# Altium integrated library TI Data Converters Analog to Digital Converter.IntLib: 2197 symbols (part 70 of 168)
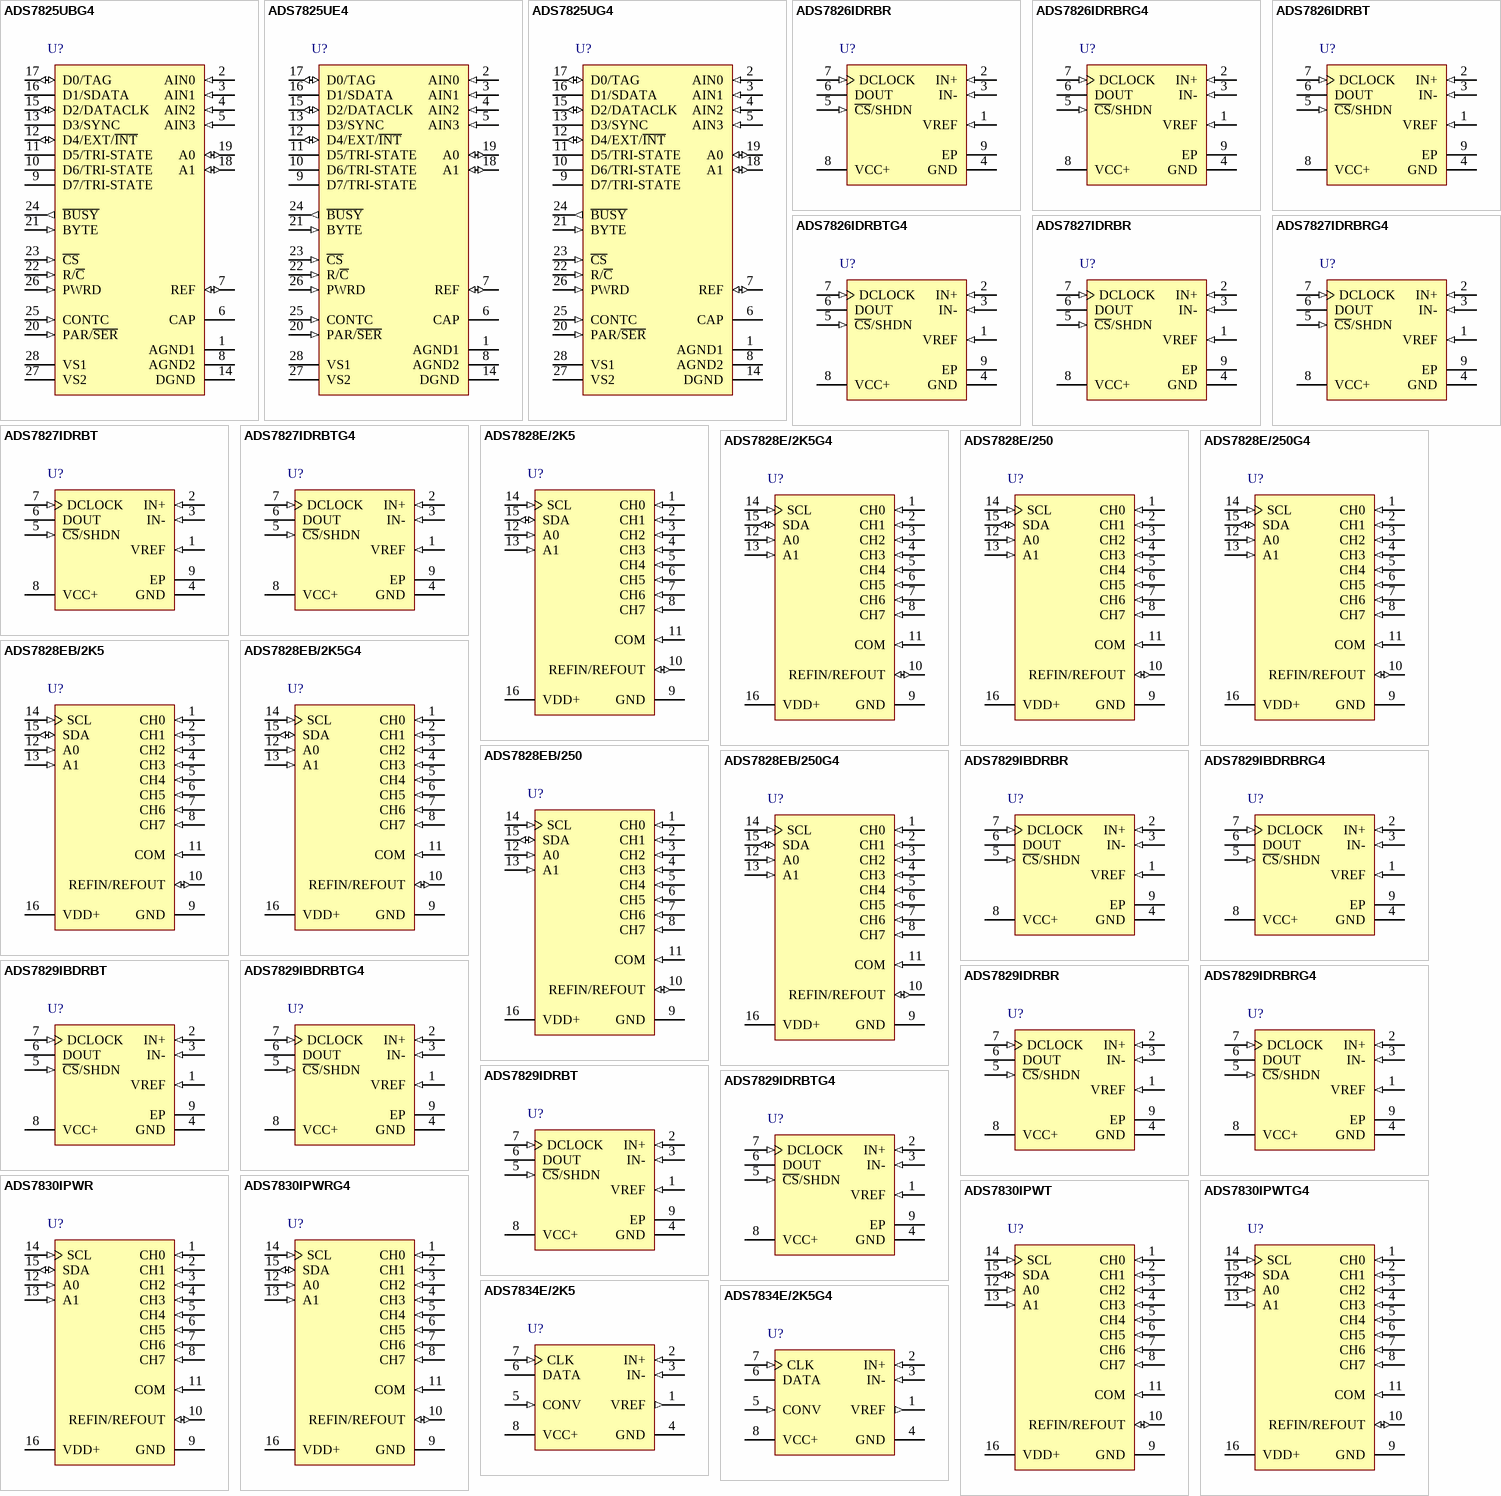
[diagram p195: symbols ADS7825UBG4 to ADS7834E/2K5G4]

## ADS7828E/2K5
designator U?
12-Bit 50 kSPS ADC I2C Low Power 8-Channel Multiplexer Internal 2.5 V Reference, -40 to 85 degC, 16-pin SOP (PW16), Green (RoHS & no Sb/Br); Manufacturer: Texas Instruments; PartNumber: ADS7828E/2K5; # Input Channels: 8; Analog Voltage AV/DD(Max)(V): 5.25; Analog Voltage AV/DD(Min)(V): 2.7; Architecture: SAR; INL(Max)(+/-LSB): 2; Interface: Serial I2C; Resolution(Bits): 12; Sample Rate (max)(SPS): 50k; SFDR(dB): 86; SINAD(dB): 71; SNR(dB): 72; SubFamily: Precision ADC (<=10MSPS); DatasheetVersion: SBAS181C; PackageVersion: 4040064-4/G, 02/2011; PackageReference: PW16; PackageDescription: 16-Pin Plastic Small Outline, Body 5 x 4.4 mm, Pitch 0.65 mm; Supplier 1: Digi-Key; Supplier Part Number 1: ADS8412IBPFBTG4-ND; Supplier 2: Mouser; Supplier Part Number 2: 595-ADS8412IBPFBTG4; Digital Supply(Max)(V): 5.25; Digital Supply(Min)(V): 2.7; Eco-Plan: Green (RoHS & no Sb/Br); Mounting Technology: Surface Mount; Code_JEDEC: MO-153; ComponentLink1Description: Manufacturer URL; ComponentLink1URL: http://www.ti.com/; ComponentLink2Description: Datasheet; ComponentLink2URL: http://www.ti.com/general/docs/lit/getliterature.tsp?genericPartNumber=ADS7828&fileType=pdf; ComponentLink3Description: Package Specification; ComponentLink3URL: http://www.ti.com/lit/ml/mpds361/mpds361.pdf
footprint TI-PW16_N (SOP, 16-Leads, Body 5x4.4mm, Pitch 0.65mm, IPC Medium Density)
footprint TI-PW16_L (SOP, 16-Leads, Body 5x4.4mm, Pitch 0.65mm, IPC High Density)
footprint TI-PW16_M (SOP, 16-Leads, Body 5x4.4mm, Pitch 0.65mm, IPC Low Density)
pins: 1 CH0 (in) "Analog Input Channel 0", 2 CH1 (in) "Analog Input Channel 1", 3 CH2 (in) "Analog Input Channel 2", 4 CH3 (in) "Analog Input Channel 3", 5 CH4 (in) "Analog Input Channel 4", 6 CH5 (in) "Analog Input Channel 5", 7 CH6 (in) "Analog Input Channel 6", 8 CH7 (in) "Analog Input Channel 7", 9 GND (power) "Analog Ground", 10 REFIN/REFOUT (io) "Internal +2.5V Reference, External Reference Input", 11 COM (in) "Common to Analog Input Channel", 12 A0 (in) "Slave Address Bit 0", 13 A1 (in) "Slave Address Bit 1", 14 SCL (in) "Serial Clock", 15 SDA (io) "Serial Data", 16 VDD+ (power) "Power Supply, 3.3V Nominal"

## ADS7828E/2K5G4
designator U?
12-Bit 50 kSPS ADC I2C Low Power 8-Channel Multiplexer Internal 2.5 V Reference, -40 to 85 degC, 16-pin SOP (PW16), Green (RoHS & no Sb/Br); Manufacturer: Texas Instruments; PartNumber: ADS7828E/2K5G4; # Input Channels: 8; Analog Voltage AV/DD(Max)(V): 5.25; Analog Voltage AV/DD(Min)(V): 2.7; Architecture: SAR; INL(Max)(+/-LSB): 2; Interface: Serial I2C; Resolution(Bits): 12; Sample Rate (max)(SPS): 50k; SFDR(dB): 86; SINAD(dB): 71; SNR(dB): 72; SubFamily: Precision ADC (<=10MSPS); DatasheetVersion: SBAS181C; PackageVersion: 4040064-4/G, 02/2011; PackageReference: PW16; PackageDescription: 16-Pin Plastic Small Outline, Body 5 x 4.4 mm, Pitch 0.65 mm; Supplier 1: Digi-Key; Supplier Part Number 1: 296-15255-2-ND; Supplier 2: Digi-Key; Supplier Part Number 2: 296-15255-1-ND; Supplier 3: Digi-Key; Supplier Part Number 3: 296-15255-6-ND; Supplier 4: Mouser; Supplier Part Number 4: 595-ADS8412IPFBT; Digital Supply(Max)(V): 5.25; Digital Supply(Min)(V): 2.7; Eco-Plan: Green (RoHS & no Sb/Br); Mounting Technology: Surface Mount; Code_JEDEC: MO-153; ComponentLink1Description: Manufacturer URL; ComponentLink1URL: http://www.ti.com/; ComponentLink2Description: Datasheet; ComponentLink2URL: http://www.ti.com/general/docs/lit/getliterature.tsp?genericPartNumber=ADS7828&fileType=pdf; ComponentLink3Description: Package Specification; ComponentLink3URL: http://www.ti.com/lit/ml/mpds361/mpds361.pdf
footprint TI-PW16_N (SOP, 16-Leads, Body 5x4.4mm, Pitch 0.65mm, IPC Medium Density)
footprint TI-PW16_L (SOP, 16-Leads, Body 5x4.4mm, Pitch 0.65mm, IPC High Density)
footprint TI-PW16_M (SOP, 16-Leads, Body 5x4.4mm, Pitch 0.65mm, IPC Low Density)
pins: 1 CH0 (in) "Analog Input Channel 0", 2 CH1 (in) "Analog Input Channel 1", 3 CH2 (in) "Analog Input Channel 2", 4 CH3 (in) "Analog Input Channel 3", 5 CH4 (in) "Analog Input Channel 4", 6 CH5 (in) "Analog Input Channel 5", 7 CH6 (in) "Analog Input Channel 6", 8 CH7 (in) "Analog Input Channel 7", 9 GND (power) "Analog Ground", 10 REFIN/REFOUT (io) "Internal +2.5V Reference, External Reference Input", 11 COM (in) "Common to Analog Input Channel", 12 A0 (in) "Slave Address Bit 0", 13 A1 (in) "Slave Address Bit 1", 14 SCL (in) "Serial Clock", 15 SDA (io) "Serial Data", 16 VDD+ (power) "Power Supply, 3.3V Nominal"

## ADS7828E/250
designator U?
12-Bit 50 kSPS ADC I2C Low Power 8-Channel Multiplexer Internal 2.5 V Reference, -40 to 85 degC, 16-pin SOP (PW16), Green (RoHS & no Sb/Br); Manufacturer: Texas Instruments; PartNumber: ADS7828E/250; # Input Channels: 8; Analog Voltage AV/DD(Max)(V): 5.25; Analog Voltage AV/DD(Min)(V): 2.7; Architecture: SAR; INL(Max)(+/-LSB): 2; Interface: Serial I2C; Resolution(Bits): 12; Sample Rate (max)(SPS): 50k; SFDR(dB): 86; SINAD(dB): 71; SNR(dB): 72; SubFamily: Precision ADC (<=10MSPS); DatasheetVersion: SBAS181C; PackageVersion: 4040064-4/G, 02/2011; PackageReference: PW16; PackageDescription: 16-Pin Plastic Small Outline, Body 5 x 4.4 mm, Pitch 0.65 mm; Supplier 1: Digi-Key; Supplier Part Number 1: ADS8412IPFBTG4-ND; Supplier 2: Mouser; Supplier Part Number 2: 595-ADS8412IPFBTG4; Digital Supply(Max)(V): 5.25; Digital Supply(Min)(V): 2.7; Eco-Plan: Green (RoHS & no Sb/Br); Mounting Technology: Surface Mount; Code_JEDEC: MO-153; ComponentLink1Description: Manufacturer URL; ComponentLink1URL: http://www.ti.com/; ComponentLink2Description: Datasheet; ComponentLink2URL: http://www.ti.com/general/docs/lit/getliterature.tsp?genericPartNumber=ADS7828&fileType=pdf; ComponentLink3Description: Package Specification; ComponentLink3URL: http://www.ti.com/lit/ml/mpds361/mpds361.pdf
footprint TI-PW16_N (SOP, 16-Leads, Body 5x4.4mm, Pitch 0.65mm, IPC Medium Density)
footprint TI-PW16_L (SOP, 16-Leads, Body 5x4.4mm, Pitch 0.65mm, IPC High Density)
footprint TI-PW16_M (SOP, 16-Leads, Body 5x4.4mm, Pitch 0.65mm, IPC Low Density)
pins: 1 CH0 (in) "Analog Input Channel 0", 2 CH1 (in) "Analog Input Channel 1", 3 CH2 (in) "Analog Input Channel 2", 4 CH3 (in) "Analog Input Channel 3", 5 CH4 (in) "Analog Input Channel 4", 6 CH5 (in) "Analog Input Channel 5", 7 CH6 (in) "Analog Input Channel 6", 8 CH7 (in) "Analog Input Channel 7", 9 GND (power) "Analog Ground", 10 REFIN/REFOUT (io) "Internal +2.5V Reference, External Reference Input", 11 COM (in) "Common to Analog Input Channel", 12 A0 (in) "Slave Address Bit 0", 13 A1 (in) "Slave Address Bit 1", 14 SCL (in) "Serial Clock", 15 SDA (io) "Serial Data", 16 VDD+ (power) "Power Supply, 3.3V Nominal"

## ADS7828E/250G4
designator U?
12-Bit 50 kSPS ADC I2C Low Power 8-Channel Multiplexer Internal 2.5 V Reference, -40 to 85 degC, 16-pin SOP (PW16), Green (RoHS & no Sb/Br); Manufacturer: Texas Instruments; PartNumber: ADS7828E/250G4; # Input Channels: 8; Analog Voltage AV/DD(Max)(V): 5.25; Analog Voltage AV/DD(Min)(V): 2.7; Architecture: SAR; INL(Max)(+/-LSB): 2; Interface: Serial I2C; Resolution(Bits): 12; Sample Rate (max)(SPS): 50k; SFDR(dB): 86; SINAD(dB): 71; SNR(dB): 72; SubFamily: Precision ADC (<=10MSPS); DatasheetVersion: SBAS181C; PackageVersion: 4040064-4/G, 02/2011; PackageReference: PW16; PackageDescription: 16-Pin Plastic Small Outline, Body 5 x 4.4 mm, Pitch 0.65 mm; Supplier 1: Digi-Key; Supplier Part Number 1: ADS8411IBPFBR-ND; Supplier 2: Mouser; Supplier Part Number 2: 595-ADS8411IBPFBR; Digital Supply(Max)(V): 5.25; Digital Supply(Min)(V): 2.7; Eco-Plan: Green (RoHS & no Sb/Br); Mounting Technology: Surface Mount; Code_JEDEC: MO-153; ComponentLink1Description: Manufacturer URL; ComponentLink1URL: http://www.ti.com/; ComponentLink2Description: Datasheet; ComponentLink2URL: http://www.ti.com/general/docs/lit/getliterature.tsp?genericPartNumber=ADS7828&fileType=pdf; ComponentLink3Description: Package Specification; ComponentLink3URL: http://www.ti.com/lit/ml/mpds361/mpds361.pdf
footprint TI-PW16_N (SOP, 16-Leads, Body 5x4.4mm, Pitch 0.65mm, IPC Medium Density)
footprint TI-PW16_L (SOP, 16-Leads, Body 5x4.4mm, Pitch 0.65mm, IPC High Density)
footprint TI-PW16_M (SOP, 16-Leads, Body 5x4.4mm, Pitch 0.65mm, IPC Low Density)
pins: 1 CH0 (in) "Analog Input Channel 0", 2 CH1 (in) "Analog Input Channel 1", 3 CH2 (in) "Analog Input Channel 2", 4 CH3 (in) "Analog Input Channel 3", 5 CH4 (in) "Analog Input Channel 4", 6 CH5 (in) "Analog Input Channel 5", 7 CH6 (in) "Analog Input Channel 6", 8 CH7 (in) "Analog Input Channel 7", 9 GND (power) "Analog Ground", 10 REFIN/REFOUT (io) "Internal +2.5V Reference, External Reference Input", 11 COM (in) "Common to Analog Input Channel", 12 A0 (in) "Slave Address Bit 0", 13 A1 (in) "Slave Address Bit 1", 14 SCL (in) "Serial Clock", 15 SDA (io) "Serial Data", 16 VDD+ (power) "Power Supply, 3.3V Nominal"

## ADS7828EB/2K5
designator U?
12-Bit 50 kSPS ADC I2C Low Power 8-Channel Multiplexer Internal 2.5 V Reference, -40 to 85 degC, 16-pin SOP (PW16), Green (RoHS & no Sb/Br); Manufacturer: Texas Instruments; PartNumber: ADS7828EB/2K5; # Input Channels: 8; Analog Voltage AV/DD(Max)(V): 5.25; Analog Voltage AV/DD(Min)(V): 2.7; Architecture: SAR; INL(Max)(+/-LSB): 1; Interface: Serial I2C; Resolution(Bits): 12; Sample Rate (max)(SPS): 50k; SFDR(dB): 86; SINAD(dB): 71; SNR(dB): 72; SubFamily: Precision ADC (<=10MSPS); DatasheetVersion: SBAS181C; PackageVersion: 4040064-4/G, 02/2011; PackageReference: PW16; PackageDescription: 16-Pin Plastic Small Outline, Body 5 x 4.4 mm, Pitch 0.65 mm; Supplier 1: Digi-Key; Supplier Part Number 1: ADS8411IBPFBRG4-ND; Supplier 2: Mouser; Supplier Part Number 2: 595-ADS8411IBPFBRG4; Digital Supply(Max)(V): 5.25; Digital Supply(Min)(V): 2.7; Eco-Plan: Green (RoHS & no Sb/Br); Mounting Technology: Surface Mount; Code_JEDEC: MO-153; ComponentLink1Description: Manufacturer URL; ComponentLink1URL: http://www.ti.com/; ComponentLink2Description: Datasheet; ComponentLink2URL: http://www.ti.com/general/docs/lit/getliterature.tsp?genericPartNumber=ADS7828&fileType=pdf; ComponentLink3Description: Package Specification; ComponentLink3URL: http://www.ti.com/lit/ml/mpds361/mpds361.pdf
footprint TI-PW16_N (SOP, 16-Leads, Body 5x4.4mm, Pitch 0.65mm, IPC Medium Density)
footprint TI-PW16_L (SOP, 16-Leads, Body 5x4.4mm, Pitch 0.65mm, IPC High Density)
footprint TI-PW16_M (SOP, 16-Leads, Body 5x4.4mm, Pitch 0.65mm, IPC Low Density)
pins: 1 CH0 (in) "Analog Input Channel 0", 2 CH1 (in) "Analog Input Channel 1", 3 CH2 (in) "Analog Input Channel 2", 4 CH3 (in) "Analog Input Channel 3", 5 CH4 (in) "Analog Input Channel 4", 6 CH5 (in) "Analog Input Channel 5", 7 CH6 (in) "Analog Input Channel 6", 8 CH7 (in) "Analog Input Channel 7", 9 GND (power) "Analog Ground", 10 REFIN/REFOUT (io) "Internal +2.5V Reference, External Reference Input", 11 COM (in) "Common to Analog Input Channel", 12 A0 (in) "Slave Address Bit 0", 13 A1 (in) "Slave Address Bit 1", 14 SCL (in) "Serial Clock", 15 SDA (io) "Serial Data", 16 VDD+ (power) "Power Supply, 3.3V Nominal"

## ADS7828EB/2K5G4
designator U?
12-Bit 50 kSPS ADC I2C Low Power 8-Channel Multiplexer Internal 2.5 V Reference, -40 to 85 degC, 16-pin SOP (PW16), Green (RoHS & no Sb/Br); Manufacturer: Texas Instruments; PartNumber: ADS7828EB/2K5G4; # Input Channels: 8; Analog Voltage AV/DD(Max)(V): 5.25; Analog Voltage AV/DD(Min)(V): 2.7; Architecture: SAR; INL(Max)(+/-LSB): 1; Interface: Serial I2C; Resolution(Bits): 12; Sample Rate (max)(SPS): 50k; SFDR(dB): 86; SINAD(dB): 71; SNR(dB): 72; SubFamily: Precision ADC (<=10MSPS); DatasheetVersion: SBAS181C; PackageVersion: 4040064-4/G, 02/2011; PackageReference: PW16; PackageDescription: 16-Pin Plastic Small Outline, Body 5 x 4.4 mm, Pitch 0.65 mm; Supplier 1: Digi-Key; Supplier Part Number 1: 296-15252-2-ND; Supplier 2: Digi-Key; Supplier Part Number 2: 296-15252-1-ND; Supplier 3: Digi-Key; Supplier Part Number 3: 296-15252-6-ND; Supplier 4: Newark; Supplier Part Number 4: 73H4135; Supplier 5: Mouser; Supplier Part Number 5: 595-ADS8411IBPFBT; Digital Supply(Max)(V): 5.25; Digital Supply(Min)(V): 2.7; Eco-Plan: Green (RoHS & no Sb/Br); Mounting Technology: Surface Mount; Code_JEDEC: MO-153; ComponentLink1Description: Manufacturer URL; ComponentLink1URL: http://www.ti.com/; ComponentLink2Description: Datasheet; ComponentLink2URL: http://www.ti.com/general/docs/lit/getliterature.tsp?genericPartNumber=ADS7828&fileType=pdf; ComponentLink3Description: Package Specification; ComponentLink3URL: http://www.ti.com/lit/ml/mpds361/mpds361.pdf
footprint TI-PW16_N (SOP, 16-Leads, Body 5x4.4mm, Pitch 0.65mm, IPC Medium Density)
footprint TI-PW16_L (SOP, 16-Leads, Body 5x4.4mm, Pitch 0.65mm, IPC High Density)
footprint TI-PW16_M (SOP, 16-Leads, Body 5x4.4mm, Pitch 0.65mm, IPC Low Density)
pins: 1 CH0 (in) "Analog Input Channel 0", 2 CH1 (in) "Analog Input Channel 1", 3 CH2 (in) "Analog Input Channel 2", 4 CH3 (in) "Analog Input Channel 3", 5 CH4 (in) "Analog Input Channel 4", 6 CH5 (in) "Analog Input Channel 5", 7 CH6 (in) "Analog Input Channel 6", 8 CH7 (in) "Analog Input Channel 7", 9 GND (power) "Analog Ground", 10 REFIN/REFOUT (io) "Internal +2.5V Reference, External Reference Input", 11 COM (in) "Common to Analog Input Channel", 12 A0 (in) "Slave Address Bit 0", 13 A1 (in) "Slave Address Bit 1", 14 SCL (in) "Serial Clock", 15 SDA (io) "Serial Data", 16 VDD+ (power) "Power Supply, 3.3V Nominal"

## ADS7828EB/250
designator U?
12-Bit 50 kSPS ADC I2C Low Power 8-Channel Multiplexer Internal 2.5 V Reference, -40 to 85 degC, 16-pin SOP (PW16), Green (RoHS & no Sb/Br); Manufacturer: Texas Instruments; PartNumber: ADS7828EB/250; # Input Channels: 8; Analog Voltage AV/DD(Max)(V): 5.25; Analog Voltage AV/DD(Min)(V): 2.7; Architecture: SAR; INL(Max)(+/-LSB): 1; Interface: Serial I2C; Resolution(Bits): 12; Sample Rate (max)(SPS): 50k; SFDR(dB): 86; SINAD(dB): 71; SNR(dB): 72; SubFamily: Precision ADC (<=10MSPS); DatasheetVersion: SBAS181C; PackageVersion: 4040064-4/G, 02/2011; PackageReference: PW16; PackageDescription: 16-Pin Plastic Small Outline, Body 5 x 4.4 mm, Pitch 0.65 mm; Supplier 1: Digi-Key; Supplier Part Number 1: ADS8411IBPFBTG4-ND; Supplier 2: Mouser; Supplier Part Number 2: 595-ADS8411IBPFBTG4; Digital Supply(Max)(V): 5.25; Digital Supply(Min)(V): 2.7; Eco-Plan: Green (RoHS & no Sb/Br); Mounting Technology: Surface Mount; Code_JEDEC: MO-153; ComponentLink1Description: Manufacturer URL; ComponentLink1URL: http://www.ti.com/; ComponentLink2Description: Datasheet; ComponentLink2URL: http://www.ti.com/general/docs/lit/getliterature.tsp?genericPartNumber=ADS7828&fileType=pdf; ComponentLink3Description: Package Specification; ComponentLink3URL: http://www.ti.com/lit/ml/mpds361/mpds361.pdf
footprint TI-PW16_N (SOP, 16-Leads, Body 5x4.4mm, Pitch 0.65mm, IPC Medium Density)
footprint TI-PW16_L (SOP, 16-Leads, Body 5x4.4mm, Pitch 0.65mm, IPC High Density)
footprint TI-PW16_M (SOP, 16-Leads, Body 5x4.4mm, Pitch 0.65mm, IPC Low Density)
pins: 1 CH0 (in) "Analog Input Channel 0", 2 CH1 (in) "Analog Input Channel 1", 3 CH2 (in) "Analog Input Channel 2", 4 CH3 (in) "Analog Input Channel 3", 5 CH4 (in) "Analog Input Channel 4", 6 CH5 (in) "Analog Input Channel 5", 7 CH6 (in) "Analog Input Channel 6", 8 CH7 (in) "Analog Input Channel 7", 9 GND (power) "Analog Ground", 10 REFIN/REFOUT (io) "Internal +2.5V Reference, External Reference Input", 11 COM (in) "Common to Analog Input Channel", 12 A0 (in) "Slave Address Bit 0", 13 A1 (in) "Slave Address Bit 1", 14 SCL (in) "Serial Clock", 15 SDA (io) "Serial Data", 16 VDD+ (power) "Power Supply, 3.3V Nominal"

## ADS7828EB/250G4
designator U?
12-Bit 50 kSPS ADC I2C Low Power 8-Channel Multiplexer Internal 2.5 V Reference, -40 to 85 degC, 16-pin SOP (PW16), Green (RoHS & no Sb/Br); Manufacturer: Texas Instruments; PartNumber: ADS7828EB/250G4; # Input Channels: 8; Analog Voltage AV/DD(Max)(V): 5.25; Analog Voltage AV/DD(Min)(V): 2.7; Architecture: SAR; INL(Max)(+/-LSB): 1; Interface: Serial I2C; Resolution(Bits): 12; Sample Rate (max)(SPS): 50k; SFDR(dB): 86; SINAD(dB): 71; SNR(dB): 72; SubFamily: Precision ADC (<=10MSPS); DatasheetVersion: SBAS181C; PackageVersion: 4040064-4/G, 02/2011; PackageReference: PW16; PackageDescription: 16-Pin Plastic Small Outline, Body 5 x 4.4 mm, Pitch 0.65 mm; Supplier 1: Digi-Key; Supplier Part Number 1: 296-15253-2-ND; Supplier 2: Digi-Key; Supplier Part Number 2: 296-15253-1-ND; Supplier 3: Digi-Key; Supplier Part Number 3: 296-15253-6-ND; Supplier 4: Mouser; Supplier Part Number 4: 595-ADS8411IPFBT; Digital Supply(Max)(V): 5.25; Digital Supply(Min)(V): 2.7; Eco-Plan: Green (RoHS & no Sb/Br); Mounting Technology: Surface Mount; Code_JEDEC: MO-153; ComponentLink1Description: Manufacturer URL; ComponentLink1URL: http://www.ti.com/; ComponentLink2Description: Datasheet; ComponentLink2URL: http://www.ti.com/general/docs/lit/getliterature.tsp?genericPartNumber=ADS7828&fileType=pdf; ComponentLink3Description: Package Specification; ComponentLink3URL: http://www.ti.com/lit/ml/mpds361/mpds361.pdf
footprint TI-PW16_N (SOP, 16-Leads, Body 5x4.4mm, Pitch 0.65mm, IPC Medium Density)
footprint TI-PW16_L (SOP, 16-Leads, Body 5x4.4mm, Pitch 0.65mm, IPC High Density)
footprint TI-PW16_M (SOP, 16-Leads, Body 5x4.4mm, Pitch 0.65mm, IPC Low Density)
pins: 1 CH0 (in) "Analog Input Channel 0", 2 CH1 (in) "Analog Input Channel 1", 3 CH2 (in) "Analog Input Channel 2", 4 CH3 (in) "Analog Input Channel 3", 5 CH4 (in) "Analog Input Channel 4", 6 CH5 (in) "Analog Input Channel 5", 7 CH6 (in) "Analog Input Channel 6", 8 CH7 (in) "Analog Input Channel 7", 9 GND (power) "Analog Ground", 10 REFIN/REFOUT (io) "Internal +2.5V Reference, External Reference Input", 11 COM (in) "Common to Analog Input Channel", 12 A0 (in) "Slave Address Bit 0", 13 A1 (in) "Slave Address Bit 1", 14 SCL (in) "Serial Clock", 15 SDA (io) "Serial Data", 16 VDD+ (power) "Power Supply, 3.3V Nominal"

## ADS7829IBDRBR
designator U?
12-Bit High Speed 2.7 V microPower Sampling ADC, -40 to 85 degC, 8-pin SON (DRB8), Green (RoHS & no Sb/Br); Manufacturer: Texas Instruments; PartNumber: ADS7829IBDRBR; # Input Channels: 1; Analog Voltage AV/DD(Max)(V): 5.25; Analog Voltage AV/DD(Min)(V): 2; Architecture: SAR; Digital Supply(Min)(V): 2.7; INL(Max)(+/-LSB): 1.25; Interface: Serial SPI; Resolution(Bits): 12; Sample Rate (max)(SPS): 125k; SFDR(dB): 85; SINAD(dB): 72; SubFamily: Precision ADC (<=10MSPS); DatasheetVersion: SLAS388; PackageVersion: 4203482-2/K, 06/2012; PackageReference: DRB8-1750X1500TP; PackageDescription: 8-Pin Plastic Small Outline, Body 3 x 3 mm, Pitch 0.65 mm; Supplier 1: Digi-Key; Supplier Part Number 1: ADS8411IPFBTG4-ND; Supplier 2: Mouser; Supplier Part Number 2: 595-ADS8411IPFBTG4; Digital Supply(Max)(V): 5.25; Eco-Plan: Green (RoHS & no Sb/Br); Mounting Technology: Surface Mount; ComponentLink1Description: Manufacturer URL; ComponentLink1URL: http://www.ti.com/; ComponentLink2Description: Datasheet; ComponentLink2URL: http://www.ti.com/general/docs/lit/getliterature.tsp?genericPartNumber=ADS7829&fileType=pdf; ComponentLink3Description: Package Specification; ComponentLink3URL: http://www.ti.com/litv/pdf/mpds118h
footprint TI-DRB8-1750X1500TP_V (SON, 8-Leads, Body 3x3mm, Pitch 0.65mm, Thermal Pad 1.50 x 3.8mm)
pins: 1 VREF (in) "Reference input", 2 IN+ (in) "Noninverting input", 3 IN- (in) "Inverting input. Connect to ground or to remote ground sense point.", 4 GND (power) "Ground", 5 ~{CS}/SHDN (in) "Chip select when LOW, shutdown mode when HIGH", 6 DOUT (hiz) "The serial output data word is comprised of 12 bits of data. In operation the data is valid on the falling edge of DCLOCK. The second clock pulse after the falling edge of C\S\ enables the serial output. After one null bit, (See Datasheet)", 7 DCLOCK (in) "Data Clock synchronizes the serial data transfer and determines conversion speed.", 8 VCC+ (power) "Power supply", 9 EP

## ADS7829IBDRBRG4
designator U?
12-Bit High Speed 2.7 V microPower Sampling ADC, -40 to 85 degC, 8-pin SON (DRB8), Green (RoHS & no Sb/Br); Manufacturer: Texas Instruments; PartNumber: ADS7829IBDRBRG4; # Input Channels: 1; Analog Voltage AV/DD(Max)(V): 5.25; Analog Voltage AV/DD(Min)(V): 2; Architecture: SAR; Digital Supply(Min)(V): 2.7; INL(Max)(+/-LSB): 1.25; Interface: Serial SPI; Resolution(Bits): 12; Sample Rate (max)(SPS): 125k; SFDR(dB): 85; SINAD(dB): 72; SubFamily: Precision ADC (<=10MSPS); DatasheetVersion: SLAS388; PackageVersion: 4203482-2/K, 06/2012; PackageReference: DRB8-1750X1500TP; PackageDescription: 8-Pin Plastic Small Outline, Body 3 x 3 mm, Pitch 0.65 mm; Supplier 1: Digi-Key; Supplier Part Number 1: 296-15077-2-ND; Supplier 2: Digi-Key; Supplier Part Number 2: 296-15077-1-ND; Supplier 3: Digi-Key; Supplier Part Number 3: 296-15077-6-ND; Supplier 4: Newark; Supplier Part Number 4: 66H9257; Supplier 5: Mouser; Supplier Part Number 5: 595-ADS8342IBPFBT; Digital Supply(Max)(V): 5.25; Eco-Plan: Green (RoHS & no Sb/Br); Mounting Technology: Surface Mount; ComponentLink1Description: Manufacturer URL; ComponentLink1URL: http://www.ti.com/; ComponentLink2Description: Datasheet; ComponentLink2URL: http://www.ti.com/general/docs/lit/getliterature.tsp?genericPartNumber=ADS7829&fileType=pdf; ComponentLink3Description: Package Specification; ComponentLink3URL: http://www.ti.com/litv/pdf/mpds118h
footprint TI-DRB8-1750X1500TP_V (SON, 8-Leads, Body 3x3mm, Pitch 0.65mm, Thermal Pad 1.50 x 3.8mm)
pins: 1 VREF (in) "Reference input", 2 IN+ (in) "Noninverting input", 3 IN- (in) "Inverting input. Connect to ground or to remote ground sense point.", 4 GND (power) "Ground", 5 ~{CS}/SHDN (in) "Chip select when LOW, shutdown mode when HIGH", 6 DOUT (hiz) "The serial output data word is comprised of 12 bits of data. In operation the data is valid on the falling edge of DCLOCK. The second clock pulse after the falling edge of C\S\ enables the serial output. After one null bit, (See Datasheet)", 7 DCLOCK (in) "Data Clock synchronizes the serial data transfer and determines conversion speed.", 8 VCC+ (power) "Power supply", 9 EP

## ADS7829IBDRBT
designator U?
12-Bit High Speed 2.7 V microPower Sampling ADC, -40 to 85 degC, 8-pin SON (DRB8), Green (RoHS & no Sb/Br); Manufacturer: Texas Instruments; PartNumber: ADS7829IBDRBT; # Input Channels: 1; Analog Voltage AV/DD(Max)(V): 5.25; Analog Voltage AV/DD(Min)(V): 2; Architecture: SAR; Digital Supply(Min)(V): 2.7; INL(Max)(+/-LSB): 1.25; Interface: Serial SPI; Resolution(Bits): 12; Sample Rate (max)(SPS): 125k; SFDR(dB): 85; SINAD(dB): 72; SubFamily: Precision ADC (<=10MSPS); DatasheetVersion: SLAS388; PackageVersion: 4203482-2/K, 06/2012; PackageReference: DRB8-1750X1500TP; PackageDescription: 8-Pin Plastic Small Outline, Body 3 x 3 mm, Pitch 0.65 mm; Supplier 1: Digi-Key; Supplier Part Number 1: ADS8342IBPFBTG4-ND; Supplier 2: Mouser; Supplier Part Number 2: 595-ADS8342IBPFBTG4; Digital Supply(Max)(V): 5.25; Eco-Plan: Green (RoHS & no Sb/Br); Mounting Technology: Surface Mount; ComponentLink1Description: Manufacturer URL; ComponentLink1URL: http://www.ti.com/; ComponentLink2Description: Datasheet; ComponentLink2URL: http://www.ti.com/general/docs/lit/getliterature.tsp?genericPartNumber=ADS7829&fileType=pdf; ComponentLink3Description: Package Specification; ComponentLink3URL: http://www.ti.com/litv/pdf/mpds118h
footprint TI-DRB8-1750X1500TP_V (SON, 8-Leads, Body 3x3mm, Pitch 0.65mm, Thermal Pad 1.50 x 3.8mm)
pins: 1 VREF (in) "Reference input", 2 IN+ (in) "Noninverting input", 3 IN- (in) "Inverting input. Connect to ground or to remote ground sense point.", 4 GND (power) "Ground", 5 ~{CS}/SHDN (in) "Chip select when LOW, shutdown mode when HIGH", 6 DOUT (hiz) "The serial output data word is comprised of 12 bits of data. In operation the data is valid on the falling edge of DCLOCK. The second clock pulse after the falling edge of C\S\ enables the serial output. After one null bit, (See Datasheet)", 7 DCLOCK (in) "Data Clock synchronizes the serial data transfer and determines conversion speed.", 8 VCC+ (power) "Power supply", 9 EP

## ADS7829IBDRBTG4
designator U?
12-Bit High Speed 2.7 V microPower Sampling ADC, -40 to 85 degC, 8-pin SON (DRB8), Green (RoHS & no Sb/Br); Manufacturer: Texas Instruments; PartNumber: ADS7829IBDRBTG4; # Input Channels: 1; Analog Voltage AV/DD(Max)(V): 5.25; Analog Voltage AV/DD(Min)(V): 2; Architecture: SAR; Digital Supply(Min)(V): 2.7; INL(Max)(+/-LSB): 1.25; Interface: Serial SPI; Resolution(Bits): 12; Sample Rate (max)(SPS): 125k; SFDR(dB): 85; SINAD(dB): 72; SubFamily: Precision ADC (<=10MSPS); DatasheetVersion: SLAS388; PackageVersion: 4203482-2/K, 06/2012; PackageReference: DRB8-1750X1500TP; PackageDescription: 8-Pin Plastic Small Outline, Body 3 x 3 mm, Pitch 0.65 mm; Supplier 1: Digi-Key; Supplier Part Number 1: 296-15078-2-ND; Supplier 2: Digi-Key; Supplier Part Number 2: 296-15078-1-ND; Supplier 3: Digi-Key; Supplier Part Number 3: 296-15078-6-ND; Supplier 4: Farnell; Supplier Part Number 4: 1459292; Supplier 5: Newark; Supplier Part Number 5: 66H9259; Supplier 6: Mouser; Supplier Part Number 6: 595-ADS8342IPFBT; Digital Supply(Max)(V): 5.25; Eco-Plan: Green (RoHS & no Sb/Br); Mounting Technology: Surface Mount; ComponentLink1Description: Manufacturer URL; ComponentLink1URL: http://www.ti.com/; ComponentLink2Description: Datasheet; ComponentLink2URL: http://www.ti.com/general/docs/lit/getliterature.tsp?genericPartNumber=ADS7829&fileType=pdf; ComponentLink3Description: Package Specification; ComponentLink3URL: http://www.ti.com/litv/pdf/mpds118h
footprint TI-DRB8-1750X1500TP_V (SON, 8-Leads, Body 3x3mm, Pitch 0.65mm, Thermal Pad 1.50 x 3.8mm)
pins: 1 VREF (in) "Reference input", 2 IN+ (in) "Noninverting input", 3 IN- (in) "Inverting input. Connect to ground or to remote ground sense point.", 4 GND (power) "Ground", 5 ~{CS}/SHDN (in) "Chip select when LOW, shutdown mode when HIGH", 6 DOUT (hiz) "The serial output data word is comprised of 12 bits of data. In operation the data is valid on the falling edge of DCLOCK. The second clock pulse after the falling edge of C\S\ enables the serial output. After one null bit, (See Datasheet)", 7 DCLOCK (in) "Data Clock synchronizes the serial data transfer and determines conversion speed.", 8 VCC+ (power) "Power supply", 9 EP

## ADS7829IDRBR
designator U?
12-Bit High Speed 2.7 V microPower Sampling ADC, -40 to 85 degC, 8-pin SON (DRB8), Green (RoHS & no Sb/Br); Manufacturer: Texas Instruments; PartNumber: ADS7829IDRBR; # Input Channels: 1; Analog Voltage AV/DD(Max)(V): 5.25; Analog Voltage AV/DD(Min)(V): 2; Architecture: SAR; Digital Supply(Min)(V): 2.7; Interface: Serial SPI; Resolution(Bits): 12; Sample Rate (max)(SPS): 125k; SFDR(dB): 82; SINAD(dB): 70; SubFamily: Precision ADC (<=10MSPS); DatasheetVersion: SLAS388; PackageVersion: 4203482-2/K, 06/2012; PackageReference: DRB8-1750X1500TP; PackageDescription: 8-Pin Plastic Small Outline, Body 3 x 3 mm, Pitch 0.65 mm; Supplier 1: Digi-Key; Supplier Part Number 1: ADS8342IPFBTG4-ND; Supplier 2: Mouser; Supplier Part Number 2: 595-ADS8342IPFBTG4; Digital Supply(Max)(V): 5.25; Eco-Plan: Green (RoHS & no Sb/Br); INL(Max)(+/-LSB): 2; Mounting Technology: Surface Mount; ComponentLink1Description: Manufacturer URL; ComponentLink1URL: http://www.ti.com/; ComponentLink2Description: Datasheet; ComponentLink2URL: http://www.ti.com/general/docs/lit/getliterature.tsp?genericPartNumber=ADS7829&fileType=pdf; ComponentLink3Description: Package Specification; ComponentLink3URL: http://www.ti.com/litv/pdf/mpds118h
footprint TI-DRB8-1750X1500TP_V (SON, 8-Leads, Body 3x3mm, Pitch 0.65mm, Thermal Pad 1.50 x 3.8mm)
pins: 1 VREF (in) "Reference input", 2 IN+ (in) "Noninverting input", 3 IN- (in) "Inverting input. Connect to ground or to remote ground sense point.", 4 GND (power) "Ground", 5 ~{CS}/SHDN (in) "Chip select when LOW, shutdown mode when HIGH", 6 DOUT (hiz) "The serial output data word is comprised of 12 bits of data. In operation the data is valid on the falling edge of DCLOCK. The second clock pulse after the falling edge of C\S\ enables the serial output. After one null bit, (See Datasheet)", 7 DCLOCK (in) "Data Clock synchronizes the serial data transfer and determines conversion speed.", 8 VCC+ (power) "Power supply", 9 EP

## ADS7829IDRBRG4
designator U?
12-Bit High Speed 2.7 V microPower Sampling ADC, -40 to 85 degC, 8-pin SON (DRB8), Green (RoHS & no Sb/Br); Manufacturer: Texas Instruments; PartNumber: ADS7829IDRBRG4; # Input Channels: 1; Analog Voltage AV/DD(Max)(V): 5.25; Analog Voltage AV/DD(Min)(V): 2; Architecture: SAR; Digital Supply(Min)(V): 2.7; Interface: Serial SPI; Resolution(Bits): 12; Sample Rate (max)(SPS): 125k; SFDR(dB): 82; SINAD(dB): 70; SubFamily: Precision ADC (<=10MSPS); DatasheetVersion: SLAS388; PackageVersion: 4203482-2/K, 06/2012; PackageReference: DRB8-1750X1500TP; PackageDescription: 8-Pin Plastic Small Outline, Body 3 x 3 mm, Pitch 0.65 mm; Supplier 1: Digi-Key; Supplier Part Number 1: ADS7881IRGZR-ND; Supplier 2: Mouser; Supplier Part Number 2: 595-ADS7881IRGZR; Digital Supply(Max)(V): 5.25; Eco-Plan: Green (RoHS & no Sb/Br); INL(Max)(+/-LSB): 2; Mounting Technology: Surface Mount; ComponentLink1Description: Manufacturer URL; ComponentLink1URL: http://www.ti.com/; ComponentLink2Description: Datasheet; ComponentLink2URL: http://www.ti.com/general/docs/lit/getliterature.tsp?genericPartNumber=ADS7829&fileType=pdf; ComponentLink3Description: Package Specification; ComponentLink3URL: http://www.ti.com/litv/pdf/mpds118h
footprint TI-DRB8-1750X1500TP_V (SON, 8-Leads, Body 3x3mm, Pitch 0.65mm, Thermal Pad 1.50 x 3.8mm)
pins: 1 VREF (in) "Reference input", 2 IN+ (in) "Noninverting input", 3 IN- (in) "Inverting input. Connect to ground or to remote ground sense point.", 4 GND (power) "Ground", 5 ~{CS}/SHDN (in) "Chip select when LOW, shutdown mode when HIGH", 6 DOUT (hiz) "The serial output data word is comprised of 12 bits of data. In operation the data is valid on the falling edge of DCLOCK. The second clock pulse after the falling edge of C\S\ enables the serial output. After one null bit, (See Datasheet)", 7 DCLOCK (in) "Data Clock synchronizes the serial data transfer and determines conversion speed.", 8 VCC+ (power) "Power supply", 9 EP

## ADS7829IDRBT
designator U?
12-Bit High Speed 2.7 V microPower Sampling ADC, -40 to 85 degC, 8-pin SON (DRB8), Green (RoHS & no Sb/Br); Manufacturer: Texas Instruments; PartNumber: ADS7829IDRBT; # Input Channels: 1; Analog Voltage AV/DD(Max)(V): 5.25; Analog Voltage AV/DD(Min)(V): 2; Architecture: SAR; Digital Supply(Min)(V): 2.7; Interface: Serial SPI; Resolution(Bits): 12; Sample Rate (max)(SPS): 125k; SFDR(dB): 82; SINAD(dB): 70; SubFamily: Precision ADC (<=10MSPS); DatasheetVersion: SLAS388; PackageVersion: 4203482-2/K, 06/2012; PackageReference: DRB8-1750X1500TP; PackageDescription: 8-Pin Plastic Small Outline, Body 3 x 3 mm, Pitch 0.65 mm; Supplier 1: Digi-Key; Supplier Part Number 1: ADS7881IRGZRG4-ND; Supplier 2: Mouser; Supplier Part Number 2: 595-ADS7881IRGZRG4; Digital Supply(Max)(V): 5.25; Eco-Plan: Green (RoHS & no Sb/Br); INL(Max)(+/-LSB): 2; Mounting Technology: Surface Mount; ComponentLink1Description: Manufacturer URL; ComponentLink1URL: http://www.ti.com/; ComponentLink2Description: Datasheet; ComponentLink2URL: http://www.ti.com/general/docs/lit/getliterature.tsp?genericPartNumber=ADS7829&fileType=pdf; ComponentLink3Description: Package Specification; ComponentLink3URL: http://www.ti.com/litv/pdf/mpds118h
footprint TI-DRB8-1750X1500TP_V (SON, 8-Leads, Body 3x3mm, Pitch 0.65mm, Thermal Pad 1.50 x 3.8mm)
pins: 1 VREF (in) "Reference input", 2 IN+ (in) "Noninverting input", 3 IN- (in) "Inverting input. Connect to ground or to remote ground sense point.", 4 GND (power) "Ground", 5 ~{CS}/SHDN (in) "Chip select when LOW, shutdown mode when HIGH", 6 DOUT (hiz) "The serial output data word is comprised of 12 bits of data. In operation the data is valid on the falling edge of DCLOCK. The second clock pulse after the falling edge of C\S\ enables the serial output. After one null bit, (See Datasheet)", 7 DCLOCK (in) "Data Clock synchronizes the serial data transfer and determines conversion speed.", 8 VCC+ (power) "Power supply", 9 EP

## ADS7829IDRBTG4
designator U?
12-Bit High Speed 2.7 V microPower Sampling ADC, -40 to 85 degC, 8-pin SON (DRB8), Green (RoHS & no Sb/Br); Manufacturer: Texas Instruments; PartNumber: ADS7829IDRBTG4; # Input Channels: 1; Analog Voltage AV/DD(Max)(V): 5.25; Analog Voltage AV/DD(Min)(V): 2; Architecture: SAR; Digital Supply(Min)(V): 2.7; Interface: Serial SPI; Resolution(Bits): 12; Sample Rate (max)(SPS): 125k; SFDR(dB): 82; SINAD(dB): 70; SubFamily: Precision ADC (<=10MSPS); DatasheetVersion: SLAS388; PackageVersion: 4203482-2/K, 06/2012; PackageReference: DRB8-1750X1500TP; PackageDescription: 8-Pin Plastic Small Outline, Body 3 x 3 mm, Pitch 0.65 mm; Supplier 1: Digi-Key; Supplier Part Number 1: 296-19489-2-ND; Supplier 2: Digi-Key; Supplier Part Number 2: 296-19489-1-ND; Supplier 3: Digi-Key; Supplier Part Number 3: 296-19489-6-ND; Supplier 4: Mouser; Supplier Part Number 4: 595-ADS7881IRGZT; Digital Supply(Max)(V): 5.25; Eco-Plan: Green (RoHS & no Sb/Br); INL(Max)(+/-LSB): 2; Mounting Technology: Surface Mount; ComponentLink1Description: Manufacturer URL; ComponentLink1URL: http://www.ti.com/; ComponentLink2Description: Datasheet; ComponentLink2URL: http://www.ti.com/general/docs/lit/getliterature.tsp?genericPartNumber=ADS7829&fileType=pdf; ComponentLink3Description: Package Specification; ComponentLink3URL: http://www.ti.com/litv/pdf/mpds118h
footprint TI-DRB8-1750X1500TP_V (SON, 8-Leads, Body 3x3mm, Pitch 0.65mm, Thermal Pad 1.50 x 3.8mm)
pins: 1 VREF (in) "Reference input", 2 IN+ (in) "Noninverting input", 3 IN- (in) "Inverting input. Connect to ground or to remote ground sense point.", 4 GND (power) "Ground", 5 ~{CS}/SHDN (in) "Chip select when LOW, shutdown mode when HIGH", 6 DOUT (hiz) "The serial output data word is comprised of 12 bits of data. In operation the data is valid on the falling edge of DCLOCK. The second clock pulse after the falling edge of C\S\ enables the serial output. After one null bit, (See Datasheet)", 7 DCLOCK (in) "Data Clock synchronizes the serial data transfer and determines conversion speed.", 8 VCC+ (power) "Power supply", 9 EP

## ADS7830IPWR
designator U?
8-Bit, 8-Channel Sampling ADC with I2C Interface, -40 to 85 degC, 16-pin SOP (PW16), Green (RoHS & no Sb/Br); Manufacturer: Texas Instruments; PartNumber: ADS7830IPWR; # Input Channels: 8; Analog Voltage AV/DD(Max)(V): 5.25; Analog Voltage AV/DD(Min)(V): 2.7; Architecture: SAR; INL(Max)(+/-LSB): 0.5; Interface: Serial I2C; Sample Rate (max)(SPS): 70k; SFDR(dB): 68; SINAD(dB): 49; SNR(dB): 50; SubFamily: Precision ADC (<=10MSPS); DatasheetVersion: SBAS302C; PackageVersion: 4040064-4/G, 02/2011; PackageReference: PW16; PackageDescription: 16-Pin Plastic Small Outline, Body 5 x 4.4 mm, Pitch 0.65 mm; Supplier 1: Digi-Key; Supplier Part Number 1: ADS7881IRGZTG4-ND; Supplier 2: Mouser; Supplier Part Number 2: 595-ADS7881IRGZTG4; Digital Supply(Max)(V): 5.25; Digital Supply(Min)(V): 2.7; Eco-Plan: Green (RoHS & no Sb/Br); Resolution(Bits): 8; Mounting Technology: Surface Mount; Code_JEDEC: MO-153; ComponentLink1Description: Manufacturer URL; ComponentLink1URL: http://www.ti.com/; ComponentLink2Description: Datasheet; ComponentLink2URL: http://www.ti.com/general/docs/lit/getliterature.tsp?genericPartNumber=ADS7830&fileType=pdf; ComponentLink3Description: Package Specification; ComponentLink3URL: http://www.ti.com/lit/ml/mpds361/mpds361.pdf
footprint TI-PW16_N (SOP, 16-Leads, Body 5x4.4mm, Pitch 0.65mm, IPC Medium Density)
footprint TI-PW16_L (SOP, 16-Leads, Body 5x4.4mm, Pitch 0.65mm, IPC High Density)
footprint TI-PW16_M (SOP, 16-Leads, Body 5x4.4mm, Pitch 0.65mm, IPC Low Density)
pins: 1 CH0 (in) "Analog Input Channel 0", 2 CH1 (in) "Analog Input Channel 1", 3 CH2 (in) "Analog Input Channel 2", 4 CH3 (in) "Analog Input Channel 3", 5 CH4 (in) "Analog Input Channel 4", 6 CH5 (in) "Analog Input Channel 5", 7 CH6 (in) "Analog Input Channel 6", 8 CH7 (in) "Analog Input Channel 7", 9 GND (power) "Analog Ground", 10 REFIN/REFOUT (io) "Internal +2.5V Reference, External Reference Input", 11 COM (in) "Common to Analog Input Channel", 12 A0 (in) "Slave Address Bit 0", 13 A1 (in) "Slave Address Bit 1", 14 SCL (in) "Serial Clock", 15 SDA (io) "Serial Data", 16 VDD+ (power) "Power Supply, 3.3V Nominal"

## ADS7830IPWRG4
designator U?
8-Bit, 8-Channel Sampling ADC with I2C Interface, -40 to 85 degC, 16-pin SOP (PW16), Green (RoHS & no Sb/Br); Manufacturer: Texas Instruments; PartNumber: ADS7830IPWRG4; # Input Channels: 8; Analog Voltage AV/DD(Max)(V): 5.25; Analog Voltage AV/DD(Min)(V): 2.7; Architecture: SAR; INL(Max)(+/-LSB): 0.5; Interface: Serial I2C; Sample Rate (max)(SPS): 70k; SFDR(dB): 68; SINAD(dB): 49; SNR(dB): 50; SubFamily: Precision ADC (<=10MSPS); DatasheetVersion: SBAS302C; PackageVersion: 4040064-4/G, 02/2011; PackageReference: PW16; PackageDescription: 16-Pin Plastic Small Outline, Body 5 x 4.4 mm, Pitch 0.65 mm; Supplier 1: Digi-Key; Supplier Part Number 1: 296-13505-5-ND; Supplier 2: Newark; Supplier Part Number 2: 76C7307; Supplier 3: Mouser; Supplier Part Number 3: 595-TLC3541IDGK; Digital Supply(Max)(V): 5.25; Digital Supply(Min)(V): 2.7; Eco-Plan: Green (RoHS & no Sb/Br); Resolution(Bits): 8; Mounting Technology: Surface Mount; Code_JEDEC: MO-153; ComponentLink1Description: Manufacturer URL; ComponentLink1URL: http://www.ti.com/; ComponentLink2Description: Datasheet; ComponentLink2URL: http://www.ti.com/general/docs/lit/getliterature.tsp?genericPartNumber=ADS7830&fileType=pdf; ComponentLink3Description: Package Specification; ComponentLink3URL: http://www.ti.com/lit/ml/mpds361/mpds361.pdf
footprint TI-PW16_N (SOP, 16-Leads, Body 5x4.4mm, Pitch 0.65mm, IPC Medium Density)
footprint TI-PW16_L (SOP, 16-Leads, Body 5x4.4mm, Pitch 0.65mm, IPC High Density)
footprint TI-PW16_M (SOP, 16-Leads, Body 5x4.4mm, Pitch 0.65mm, IPC Low Density)
pins: 1 CH0 (in) "Analog Input Channel 0", 2 CH1 (in) "Analog Input Channel 1", 3 CH2 (in) "Analog Input Channel 2", 4 CH3 (in) "Analog Input Channel 3", 5 CH4 (in) "Analog Input Channel 4", 6 CH5 (in) "Analog Input Channel 5", 7 CH6 (in) "Analog Input Channel 6", 8 CH7 (in) "Analog Input Channel 7", 9 GND (power) "Analog Ground", 10 REFIN/REFOUT (io) "Internal +2.5V Reference, External Reference Input", 11 COM (in) "Common to Analog Input Channel", 12 A0 (in) "Slave Address Bit 0", 13 A1 (in) "Slave Address Bit 1", 14 SCL (in) "Serial Clock", 15 SDA (io) "Serial Data", 16 VDD+ (power) "Power Supply, 3.3V Nominal"

## ADS7830IPWT
designator U?
8-Bit, 8-Channel Sampling ADC with I2C Interface, -40 to 85 degC, 16-pin SOP (PW16), Green (RoHS & no Sb/Br); Manufacturer: Texas Instruments; PartNumber: ADS7830IPWT; # Input Channels: 8; Analog Voltage AV/DD(Max)(V): 5.25; Analog Voltage AV/DD(Min)(V): 2.7; Architecture: SAR; INL(Max)(+/-LSB): 0.5; Interface: Serial I2C; Sample Rate (max)(SPS): 70k; SFDR(dB): 68; SINAD(dB): 49; SNR(dB): 50; SubFamily: Precision ADC (<=10MSPS); DatasheetVersion: SBAS302C; PackageVersion: 4040064-4/G, 02/2011; PackageReference: PW16; PackageDescription: 16-Pin Plastic Small Outline, Body 5 x 4.4 mm, Pitch 0.65 mm; Supplier 1: Digi-Key; Supplier Part Number 1: TLC3541IDGKG4-ND; Supplier 2: Mouser; Supplier Part Number 2: 595-TLC3541IDGKG4; Digital Supply(Max)(V): 5.25; Digital Supply(Min)(V): 2.7; Eco-Plan: Green (RoHS & no Sb/Br); Resolution(Bits): 8; Mounting Technology: Surface Mount; Code_JEDEC: MO-153; ComponentLink1Description: Manufacturer URL; ComponentLink1URL: http://www.ti.com/; ComponentLink2Description: Datasheet; ComponentLink2URL: http://www.ti.com/general/docs/lit/getliterature.tsp?genericPartNumber=ADS7830&fileType=pdf; ComponentLink3Description: Package Specification; ComponentLink3URL: http://www.ti.com/lit/ml/mpds361/mpds361.pdf
footprint TI-PW16_N (SOP, 16-Leads, Body 5x4.4mm, Pitch 0.65mm, IPC Medium Density)
footprint TI-PW16_L (SOP, 16-Leads, Body 5x4.4mm, Pitch 0.65mm, IPC High Density)
footprint TI-PW16_M (SOP, 16-Leads, Body 5x4.4mm, Pitch 0.65mm, IPC Low Density)
pins: 1 CH0 (in) "Analog Input Channel 0", 2 CH1 (in) "Analog Input Channel 1", 3 CH2 (in) "Analog Input Channel 2", 4 CH3 (in) "Analog Input Channel 3", 5 CH4 (in) "Analog Input Channel 4", 6 CH5 (in) "Analog Input Channel 5", 7 CH6 (in) "Analog Input Channel 6", 8 CH7 (in) "Analog Input Channel 7", 9 GND (power) "Analog Ground", 10 REFIN/REFOUT (io) "Internal +2.5V Reference, External Reference Input", 11 COM (in) "Common to Analog Input Channel", 12 A0 (in) "Slave Address Bit 0", 13 A1 (in) "Slave Address Bit 1", 14 SCL (in) "Serial Clock", 15 SDA (io) "Serial Data", 16 VDD+ (power) "Power Supply, 3.3V Nominal"

## ADS7830IPWTG4
designator U?
8-Bit, 8-Channel Sampling ADC with I2C Interface, -40 to 85 degC, 16-pin SOP (PW16), Green (RoHS & no Sb/Br); Manufacturer: Texas Instruments; PartNumber: ADS7830IPWTG4; # Input Channels: 8; Analog Voltage AV/DD(Max)(V): 5.25; Analog Voltage AV/DD(Min)(V): 2.7; Architecture: SAR; INL(Max)(+/-LSB): 0.5; Interface: Serial I2C; Sample Rate (max)(SPS): 70k; SFDR(dB): 68; SINAD(dB): 49; SNR(dB): 50; SubFamily: Precision ADC (<=10MSPS); DatasheetVersion: SBAS302C; PackageVersion: 4040064-4/G, 02/2011; PackageReference: PW16; PackageDescription: 16-Pin Plastic Small Outline, Body 5 x 4.4 mm, Pitch 0.65 mm; Supplier 1: Digi-Key; Supplier Part Number 1: TLC3541IDGKR-ND; Supplier 2: Mouser; Supplier Part Number 2: 595-TLC3541IDGKR; Digital Supply(Max)(V): 5.25; Digital Supply(Min)(V): 2.7; Eco-Plan: Green (RoHS & no Sb/Br); Resolution(Bits): 8; Mounting Technology: Surface Mount; Code_JEDEC: MO-153; ComponentLink1Description: Manufacturer URL; ComponentLink1URL: http://www.ti.com/; ComponentLink2Description: Datasheet; ComponentLink2URL: http://www.ti.com/general/docs/lit/getliterature.tsp?genericPartNumber=ADS7830&fileType=pdf; ComponentLink3Description: Package Specification; ComponentLink3URL: http://www.ti.com/lit/ml/mpds361/mpds361.pdf
footprint TI-PW16_N (SOP, 16-Leads, Body 5x4.4mm, Pitch 0.65mm, IPC Medium Density)
footprint TI-PW16_L (SOP, 16-Leads, Body 5x4.4mm, Pitch 0.65mm, IPC High Density)
footprint TI-PW16_M (SOP, 16-Leads, Body 5x4.4mm, Pitch 0.65mm, IPC Low Density)
pins: 1 CH0 (in) "Analog Input Channel 0", 2 CH1 (in) "Analog Input Channel 1", 3 CH2 (in) "Analog Input Channel 2", 4 CH3 (in) "Analog Input Channel 3", 5 CH4 (in) "Analog Input Channel 4", 6 CH5 (in) "Analog Input Channel 5", 7 CH6 (in) "Analog Input Channel 6", 8 CH7 (in) "Analog Input Channel 7", 9 GND (power) "Analog Ground", 10 REFIN/REFOUT (io) "Internal +2.5V Reference, External Reference Input", 11 COM (in) "Common to Analog Input Channel", 12 A0 (in) "Slave Address Bit 0", 13 A1 (in) "Slave Address Bit 1", 14 SCL (in) "Serial Clock", 15 SDA (io) "Serial Data", 16 VDD+ (power) "Power Supply, 3.3V Nominal"

## ADS7834E/2K5
designator U?
12-Bit High Speed Low Power Sampling ADC, -40 to 85 degC, 8-pin SOP (DGK8), Green (RoHS & no Sb/Br); Manufacturer: Texas Instruments; PartNumber: ADS7834E/2K5; # Input Channels: 1; Analog Voltage AV/DD(Max)(V): 5.25; Analog Voltage AV/DD(Min)(V): 4.75; Architecture: SAR; INL(Max)(+/-LSB): 2; Interface: Serial SPI; Resolution(Bits): 12; Sample Rate (max)(SPS): 500k; SFDR(dB): 78; SINAD(dB): 70; SNR(dB): 72; SubFamily: Precision ADC (<=10MSPS); DatasheetVersion: SBAS098A; PackageVersion: 4073329/E, 05/2006; PackageReference: DGK8; PackageDescription: 8-Pin Thin Small Outline, Body 3 x 3 mm, Pitch 0.65 mm; Supplier 1: Digi-Key; Supplier Part Number 1: TLC3541IDGKRG4-ND; Supplier 2: Mouser; Supplier Part Number 2: 595-TLC3541IDGKRG4; Digital Supply(Max)(V): 5.25; Digital Supply(Min)(V): 4.75; Eco-Plan: Green (RoHS & no Sb/Br); Mounting Technology: Surface Mount; Code_JEDEC: MO-187; ComponentLink1Description: Manufacturer URL; ComponentLink1URL: http://www.ti.com/; ComponentLink2Description: Datasheet; ComponentLink2URL: http://www.ti.com/general/docs/lit/getliterature.tsp?genericPartNumber=ADS7834&fileType=pdf; ComponentLink3Description: Package Specification; ComponentLink3URL: http://www.ti.com/litv/pdf/mpds028d
footprint TI-DGK8_N (SOP, 8-Leads, Body 3x3mm, Pitch 0.65mm, IPC Medium Density)
footprint TI-DGK8_L (SOP, 8-Leads, Body 3x3mm, Pitch 0.65mm, IPC High Density)
footprint TI-DGK8_M (SOP, 8-Leads, Body 3x3mm, Pitch 0.65mm, IPC Low Density)
pins: 1 VREF (out) "Reference Output. Decouple to ground with a 0.1uF ceramic capacitor and a 2.2uF tantalum capacitor.", 2 IN+ (in) "Non-Inverting Input.", 3 IN- (in) "Inverting Input. Connect to ground or to remote ground sense point.", 4 GND (power) "Ground.", 5 CONV (in) "Convert Input. Controls the sample/hold mode, start of conversion, start of serial data transfer, type of serial transfer, and power down mode. See the Digital Interface section for more information.", 6 DATA (hiz) "Serial Data Output. The 12-bit conversion result is serially transmitted most significant bit first with each bit valid on the rising edge of CLK. By properly controlling the CONV input, it is possibly to have the data (See Datasheet)", 7 CLK (in) "Clock Input. Synchronizes the serial data transfer and determines conversion speed.", 8 VCC+ (power) "Power Supply. Decouple to ground with a 0.1uF ceramic capacitor and a 10uF tantalum capacitor."

## ADS7834E/2K5G4
designator U?
12-Bit High Speed Low Power Sampling ADC, -40 to 85 degC, 8-pin SOP (DGK8), Green (RoHS & no Sb/Br); Manufacturer: Texas Instruments; PartNumber: ADS7834E/2K5G4; # Input Channels: 1; Analog Voltage AV/DD(Max)(V): 5.25; Analog Voltage AV/DD(Min)(V): 4.75; Architecture: SAR; INL(Max)(+/-LSB): 2; Interface: Serial SPI; Resolution(Bits): 12; Sample Rate (max)(SPS): 500k; SFDR(dB): 78; SINAD(dB): 70; SNR(dB): 72; SubFamily: Precision ADC (<=10MSPS); DatasheetVersion: SBAS098A; PackageVersion: 4073329/E, 05/2006; PackageReference: DGK8; PackageDescription: 8-Pin Thin Small Outline, Body 3 x 3 mm, Pitch 0.65 mm; Supplier 1: Digi-Key; Supplier Part Number 1: 296-13064-2-ND; Supplier 2: Digi-Key; Supplier Part Number 2: 296-13064-1-ND; Supplier 3: Digi-Key; Supplier Part Number 3: 296-13064-6-ND; Supplier 4: Newark; Supplier Part Number 4: 74C7234; Supplier 5: Mouser; Supplier Part Number 5: 595-ADS8324E/250; Digital Supply(Max)(V): 5.25; Digital Supply(Min)(V): 4.75; Eco-Plan: Green (RoHS & no Sb/Br); Mounting Technology: Surface Mount; Code_JEDEC: MO-187; ComponentLink1Description: Manufacturer URL; ComponentLink1URL: http://www.ti.com/; ComponentLink2Description: Datasheet; ComponentLink2URL: http://www.ti.com/general/docs/lit/getliterature.tsp?genericPartNumber=ADS7834&fileType=pdf; ComponentLink3Description: Package Specification; ComponentLink3URL: http://www.ti.com/litv/pdf/mpds028d
footprint TI-DGK8_N (SOP, 8-Leads, Body 3x3mm, Pitch 0.65mm, IPC Medium Density)
footprint TI-DGK8_L (SOP, 8-Leads, Body 3x3mm, Pitch 0.65mm, IPC High Density)
footprint TI-DGK8_M (SOP, 8-Leads, Body 3x3mm, Pitch 0.65mm, IPC Low Density)
pins: 1 VREF (out) "Reference Output. Decouple to ground with a 0.1uF ceramic capacitor and a 2.2uF tantalum capacitor.", 2 IN+ (in) "Non-Inverting Input.", 3 IN- (in) "Inverting Input. Connect to ground or to remote ground sense point.", 4 GND (power) "Ground.", 5 CONV (in) "Convert Input. Controls the sample/hold mode, start of conversion, start of serial data transfer, type of serial transfer, and power down mode. See the Digital Interface section for more information.", 6 DATA (hiz) "Serial Data Output. The 12-bit conversion result is serially transmitted most significant bit first with each bit valid on the rising edge of CLK. By properly controlling the CONV input, it is possibly to have the data (See Datasheet)", 7 CLK (in) "Clock Input. Synchronizes the serial data transfer and determines conversion speed.", 8 VCC+ (power) "Power Supply. Decouple to ground with a 0.1uF ceramic capacitor and a 10uF tantalum capacitor."

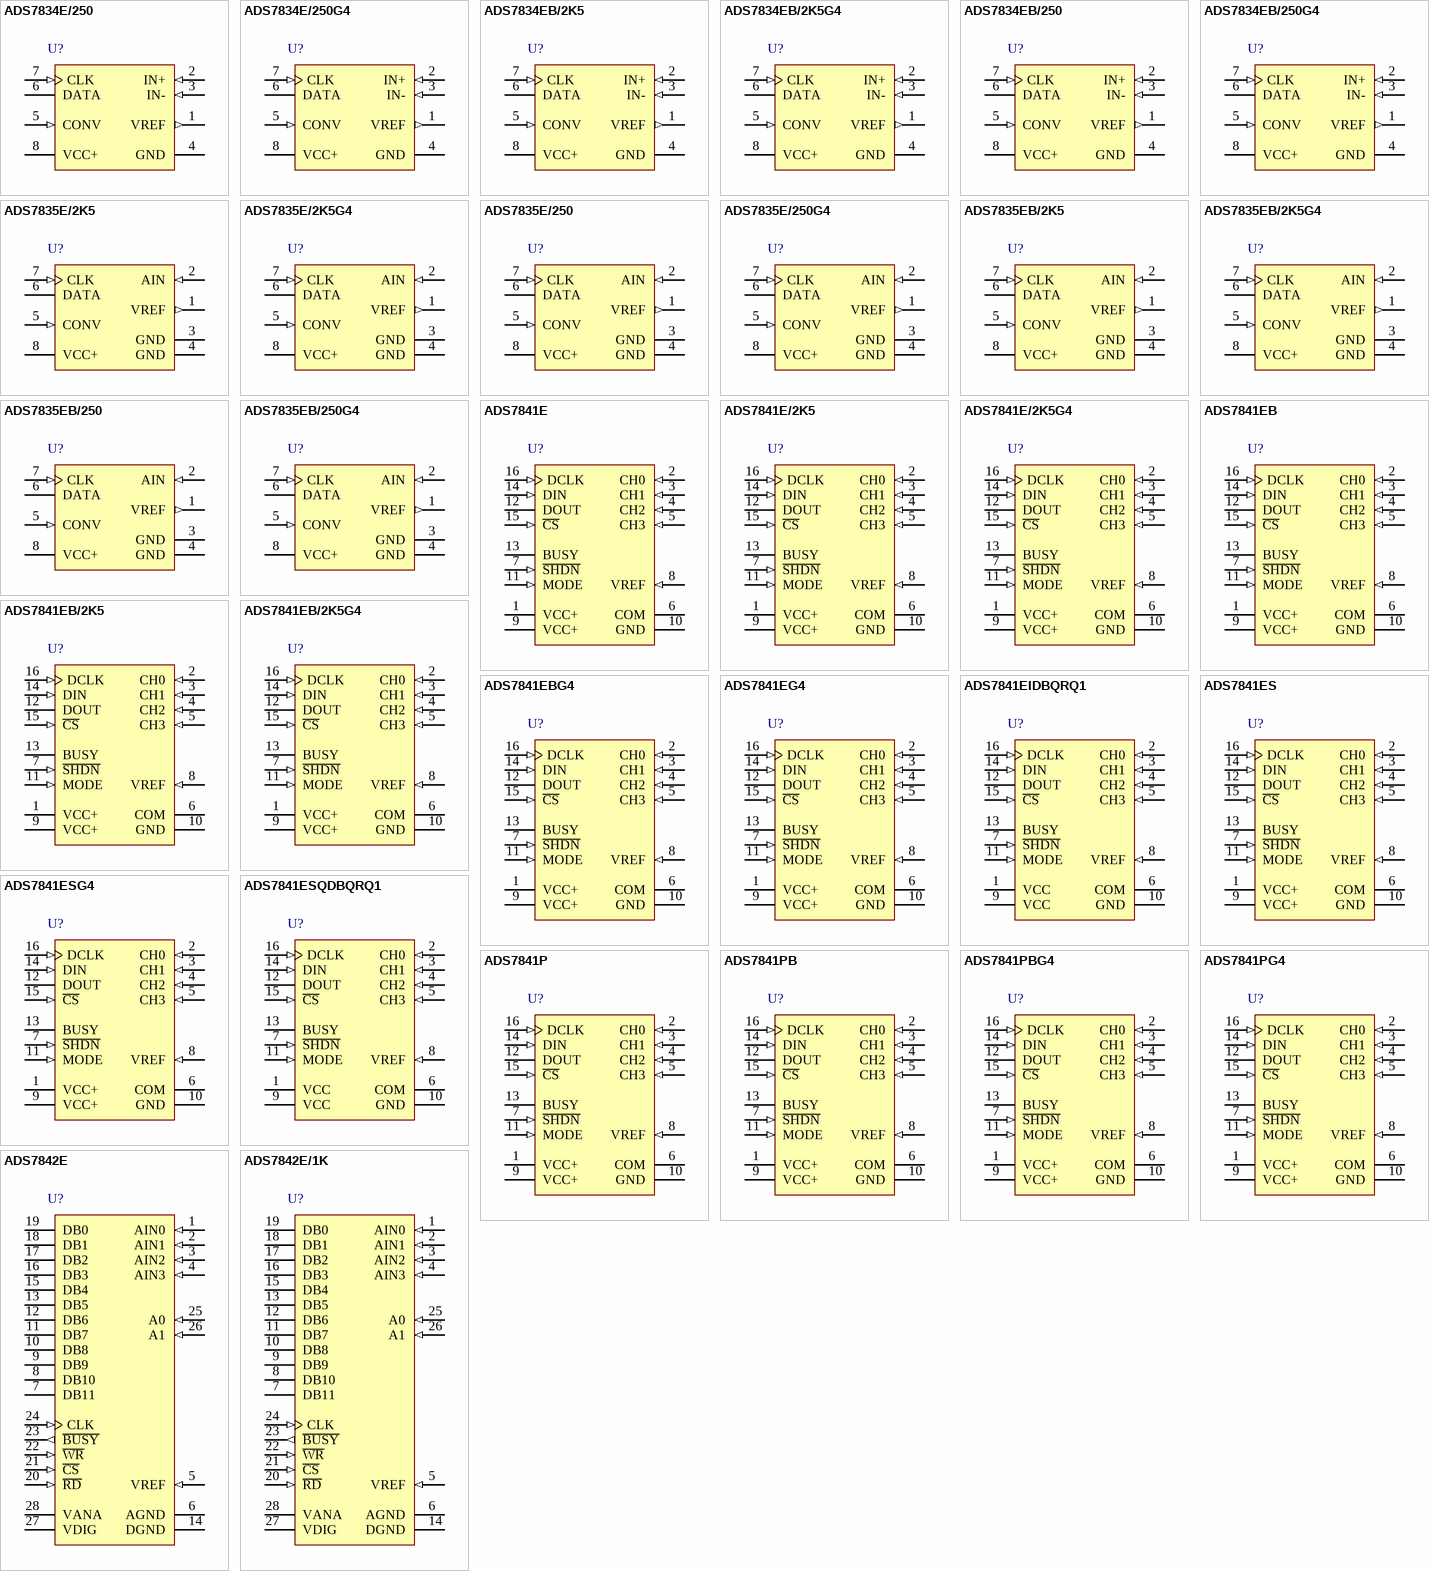
[diagram p64: symbols ADS7834E/250 to ADS7842E/1K]